# EAGLE library part MAX6966AEE (library max696x)
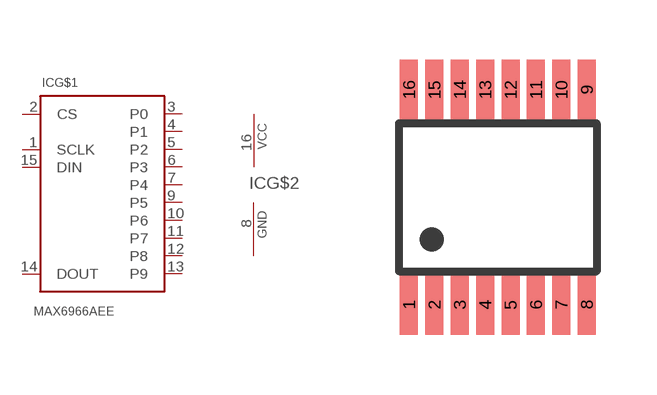
[diagram p0: symbol with the pads of QSOP16; footprint QSOP16]

Designator prefix IC; gates G$1=PWM6966 G$2=PWR

## MAX6966AEE  [QSOP16]
1  G$1:SCLK  in
2  G$1:CS  in
3  G$1:P0  out
4  G$1:P1  out
5  G$1:P2  out
6  G$1:P3  out
7  G$1:P4  out
8  G$2:GND  pwr
9  G$1:P5  out
10  G$1:P6  out
11  G$1:P7  out
12  G$1:P8  out
13  G$1:P9  out
14  G$1:DOUT  out
15  G$1:DIN  in
16  G$2:VCC  pwr

## Footprint QSOP16 (pad centres in mm)
smd 0.45 x 1.5: 1 -2.223,-2.69; 2 -1.587,-2.69; 3 -0.953,-2.69; 4 -0.318,-2.69; 5 0.318,-2.69; 6 0.953,-2.69; 7 1.587,-2.69; 8 2.223,-2.69; 9 2.223,2.69; 10 1.587,2.69; 11 0.953,2.69; 12 0.318,2.69; 13 -0.318,2.69; 14 -0.953,2.69; 15 -1.587,2.69; 16 -2.223,2.69